# Altium schematic symbol library Maxim Amplifiers and Comparators.SchLib: 420 symbols (part 4 of 16)
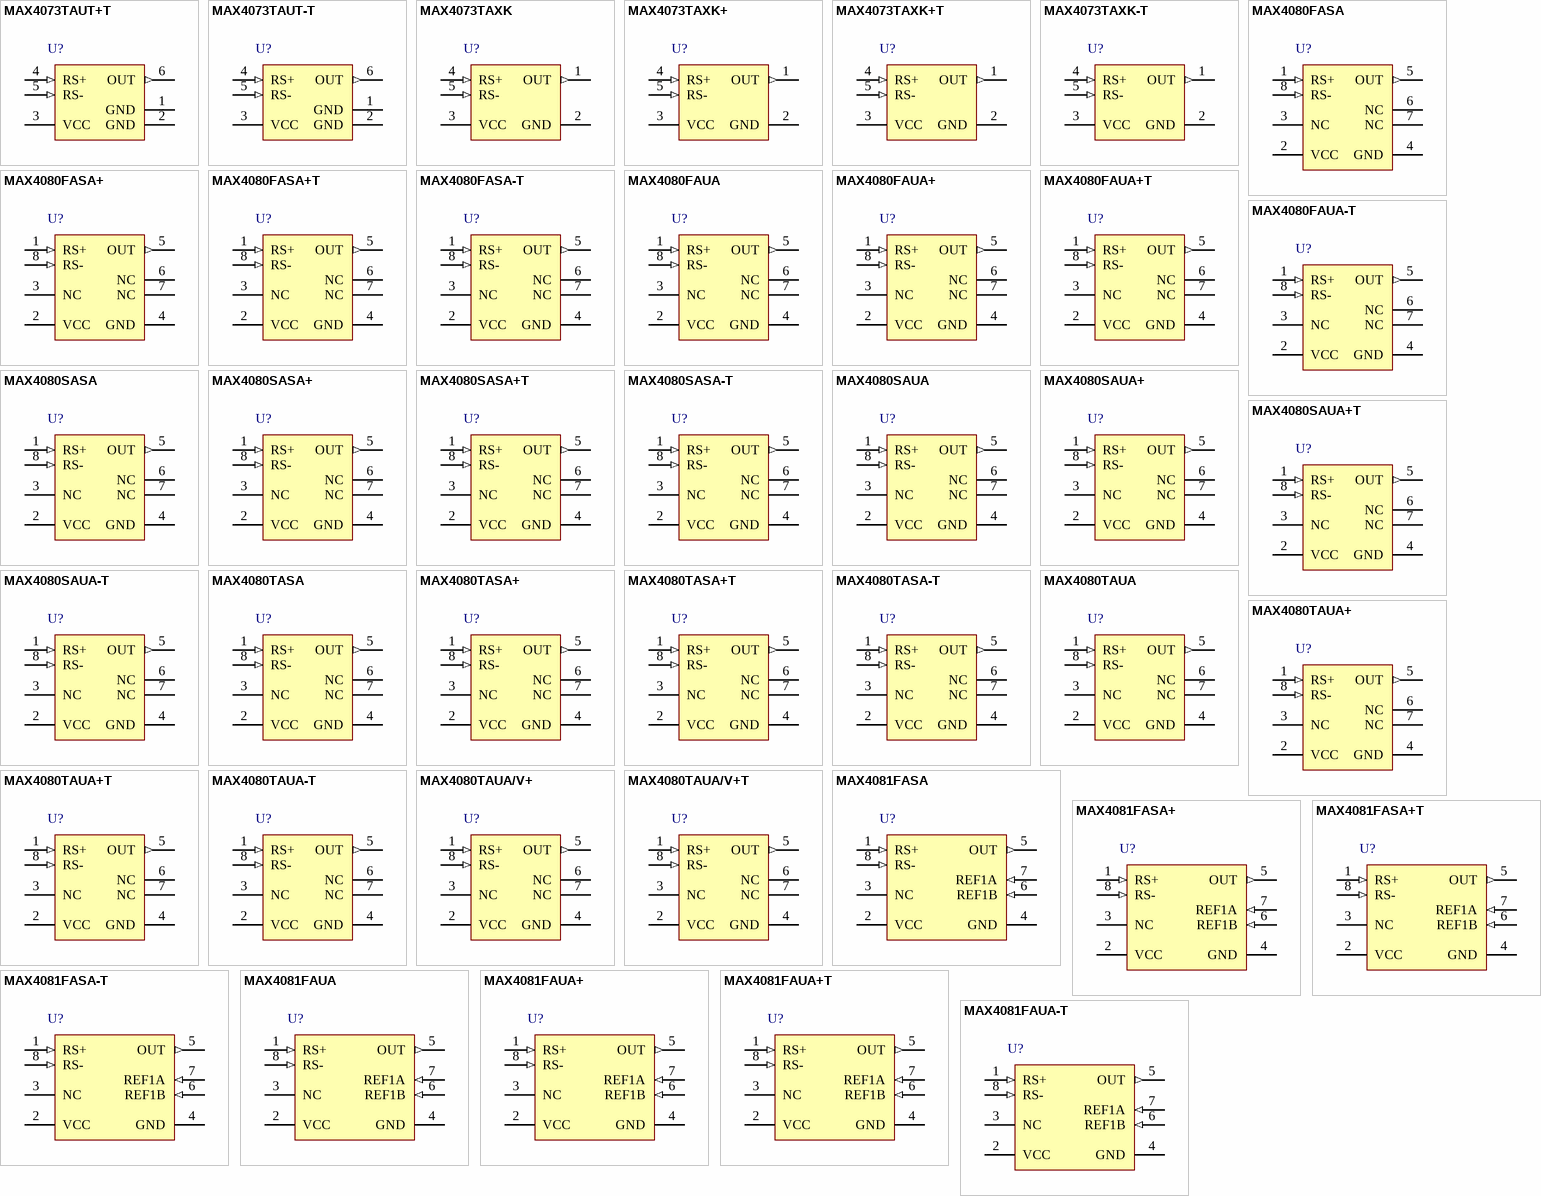
[diagram p13: symbols MAX4073TAUT+T to MAX4081FAUA-T]

## MAX4081FAUA+
designator U?
76 V, High-Side, Bi-directional Current-Sense Amplifier, 5 V / V Gain, -40 to 125 degC, 8-Pin SOP (U8+1), Pb-Free; PartNumber: MAX4081FAUA+; Bi-Dir. Curr. Sense: Yes; Gain: 5 V/V, 20 V/V ,60 V/V; Industry Qualified: Automotive - AECQ100, Automotive - General; DatasheetVersion: Rev. 4; PackageVersion: Rev. L, 08/2009; PackageReference: U8+1; PackageDescription: 8-Pin Micro-MAX, Thin Shrink Small-Outline (U8+1), Body 3 x 3 mm, Pitch 0.65 mm; Supplier 1: Digi-Key; Supplier Part Number 1: MAX4081FAUA+-ND; Supplier 2: Mouser; Supplier Part Number 2: 700-MAX4081FAUA; Mounting Technology: Surface Mount; Code_JEDEC: MO-187; ComponentLink1Description: Manufacturer URL; ComponentLink1URL: http://www.maximintegrated.com/; ComponentLink2Description: Datasheet; ComponentLink2URL: http://datasheets.maximintegrated.com/en/ds/MAX4080-MAX4081.pdf; ComponentLink3Description: Package Specification; ComponentLink3URL: http://pdfserv.maximintegrated.com/package_dwgs/21-0036.PDF
footprint MAXM-U8+1_N (SOP, 8-Leads, Body 3x3mm, Pitch 0.65mm, IPC Medium Density)
footprint MAXM-U8+1_L (SOP, 8-Leads, Body 3x3mm, Pitch 0.65mm, IPC High Density)
footprint MAXM-U8+1_M (SOP, 8-Leads, Body 3x3mm, Pitch 0.65mm, IPC Low Density)
pins: 1 RS+ (in) "Power connection to the external-sense resistor.", 2 VCC (power) "Supply Voltage Input. Decouple VCC to GND with at least a 0.1uF capacitor to bypass line transients.", 3 NC "No Connection. No internal connection. Leave open or connect to ground.", 4 GND (power) "Ground", 5 OUT (out) "Voltage Output. For the unidirectional MAX4080, VOUT is proportional to VSENSE. For the bidirectional MAX4081, the difference voltage (VOUT - VREF) is proportional to VSENSE and indicates the correct polarity.", 6 REF1B (in) "Reference Voltage Input: Connect REF1B to REF1A or to GND (see the External Reference section).", 7 REF1A (in) "Reference Voltage Input: Connect REF1A and REF1B to a fixed reference voltage (VREF). VOUT is equal to VREF when VSENSE is zero (see the External Reference section).", 8 RS- (in) "Load connection to the external sense resistor."

## MAX4081FAUA+T
designator U?
76 V, High-Side, Bi-directional Current-Sense Amplifier, 5 V / V Gain, -40 to 125 degC, 8-Pin SOP (U8+1), Pb-Free, Tape and Reel; PartNumber: MAX4081FAUA+T; Bi-Dir. Curr. Sense: Yes; Gain: 5 V/V, 20 V/V ,60 V/V; Industry Qualified: Automotive - AECQ100, Automotive - General; DatasheetVersion: Rev. 4; PackageVersion: Rev. L, 08/2009; PackageReference: U8+1; PackageDescription: 8-Pin Micro-MAX, Thin Shrink Small-Outline (U8+1), Body 3 x 3 mm, Pitch 0.65 mm; Supplier 1: Digi-Key; Supplier Part Number 1: MAX4081FAUA+T-ND; Supplier 2: Mouser; Supplier Part Number 2: 700-MAX4081FAUA+T; Mounting Technology: Surface Mount; Code_JEDEC: MO-187; ComponentLink1Description: Manufacturer URL; ComponentLink1URL: http://www.maximintegrated.com/; ComponentLink2Description: Datasheet; ComponentLink2URL: http://datasheets.maximintegrated.com/en/ds/MAX4080-MAX4081.pdf; ComponentLink3Description: Package Specification; ComponentLink3URL: http://pdfserv.maximintegrated.com/package_dwgs/21-0036.PDF
footprint MAXM-U8+1_N (SOP, 8-Leads, Body 3x3mm, Pitch 0.65mm, IPC Medium Density)
footprint MAXM-U8+1_L (SOP, 8-Leads, Body 3x3mm, Pitch 0.65mm, IPC High Density)
footprint MAXM-U8+1_M (SOP, 8-Leads, Body 3x3mm, Pitch 0.65mm, IPC Low Density)
pins: 1 RS+ (in) "Power connection to the external-sense resistor.", 2 VCC (power) "Supply Voltage Input. Decouple VCC to GND with at least a 0.1uF capacitor to bypass line transients.", 3 NC "No Connection. No internal connection. Leave open or connect to ground.", 4 GND (power) "Ground", 5 OUT (out) "Voltage Output. For the unidirectional MAX4080, VOUT is proportional to VSENSE. For the bidirectional MAX4081, the difference voltage (VOUT - VREF) is proportional to VSENSE and indicates the correct polarity.", 6 REF1B (in) "Reference Voltage Input: Connect REF1B to REF1A or to GND (see the External Reference section).", 7 REF1A (in) "Reference Voltage Input: Connect REF1A and REF1B to a fixed reference voltage (VREF). VOUT is equal to VREF when VSENSE is zero (see the External Reference section).", 8 RS- (in) "Load connection to the external sense resistor."

## MAX4081FAUA-T
designator U?
76 V, High-Side, Bi-directional Current-Sense Amplifier, 5 V / V Gain, -40 to 125 degC, 8-Pin SOP (U8-1), Tape and Reel; PartNumber: MAX4081FAUA-T; Bi-Dir. Curr. Sense: Yes; Gain: 5 V/V, 20 V/V ,60 V/V; Industry Qualified: Automotive - AECQ100, Automotive - General; DatasheetVersion: Rev. 4; PackageVersion: Rev. L, 08/2009; PackageReference: U8-1; PackageDescription: 8-Pin Micro-MAX, Thin Shrink Small-Outline (U8-1), Body 3 x 3 mm, Pitch 0.65mm; Supplier 1: Digi-Key; Supplier Part Number 1: MAX4081FAUA-T-ND; Supplier 2: Mouser; Supplier Part Number 2: 700-MAX4081FAUA-T-; Mounting Technology: Surface Mount; Code_JEDEC: MO-187; ComponentLink1Description: Manufacturer URL; ComponentLink1URL: http://www.maximintegrated.com/; ComponentLink2Description: Datasheet; ComponentLink2URL: http://datasheets.maximintegrated.com/en/ds/MAX4080-MAX4081.pdf; ComponentLink3Description: Package Specification; ComponentLink3URL: http://pdfserv.maximintegrated.com/package_dwgs/21-0036.PDF
footprint MAXM-U8-1_N (SOP, 8-Leads, Body 3x3mm, Pitch 0.65mm, IPC Medium Density)
footprint MAXM-U8-1_L (SOP, 8-Leads, Body 3x3mm, Pitch 0.65mm, IPC High Density)
footprint MAXM-U8-1_M (SOP, 8-Leads, Body 3x3mm, Pitch 0.65mm, IPC Low Density)
pins: 1 RS+ (in) "Power connection to the external-sense resistor.", 2 VCC (power) "Supply Voltage Input. Decouple VCC to GND with at least a 0.1uF capacitor to bypass line transients.", 3 NC "No Connection. No internal connection. Leave open or connect to ground.", 4 GND (power) "Ground", 5 OUT (out) "Voltage Output. For the unidirectional MAX4080, VOUT is proportional to VSENSE. For the bidirectional MAX4081, the difference voltage (VOUT - VREF) is proportional to VSENSE and indicates the correct polarity.", 6 REF1B (in) "Reference Voltage Input: Connect REF1B to REF1A or to GND (see the External Reference section).", 7 REF1A (in) "Reference Voltage Input: Connect REF1A and REF1B to a fixed reference voltage (VREF). VOUT is equal to VREF when VSENSE is zero (see the External Reference section).", 8 RS- (in) "Load connection to the external sense resistor."

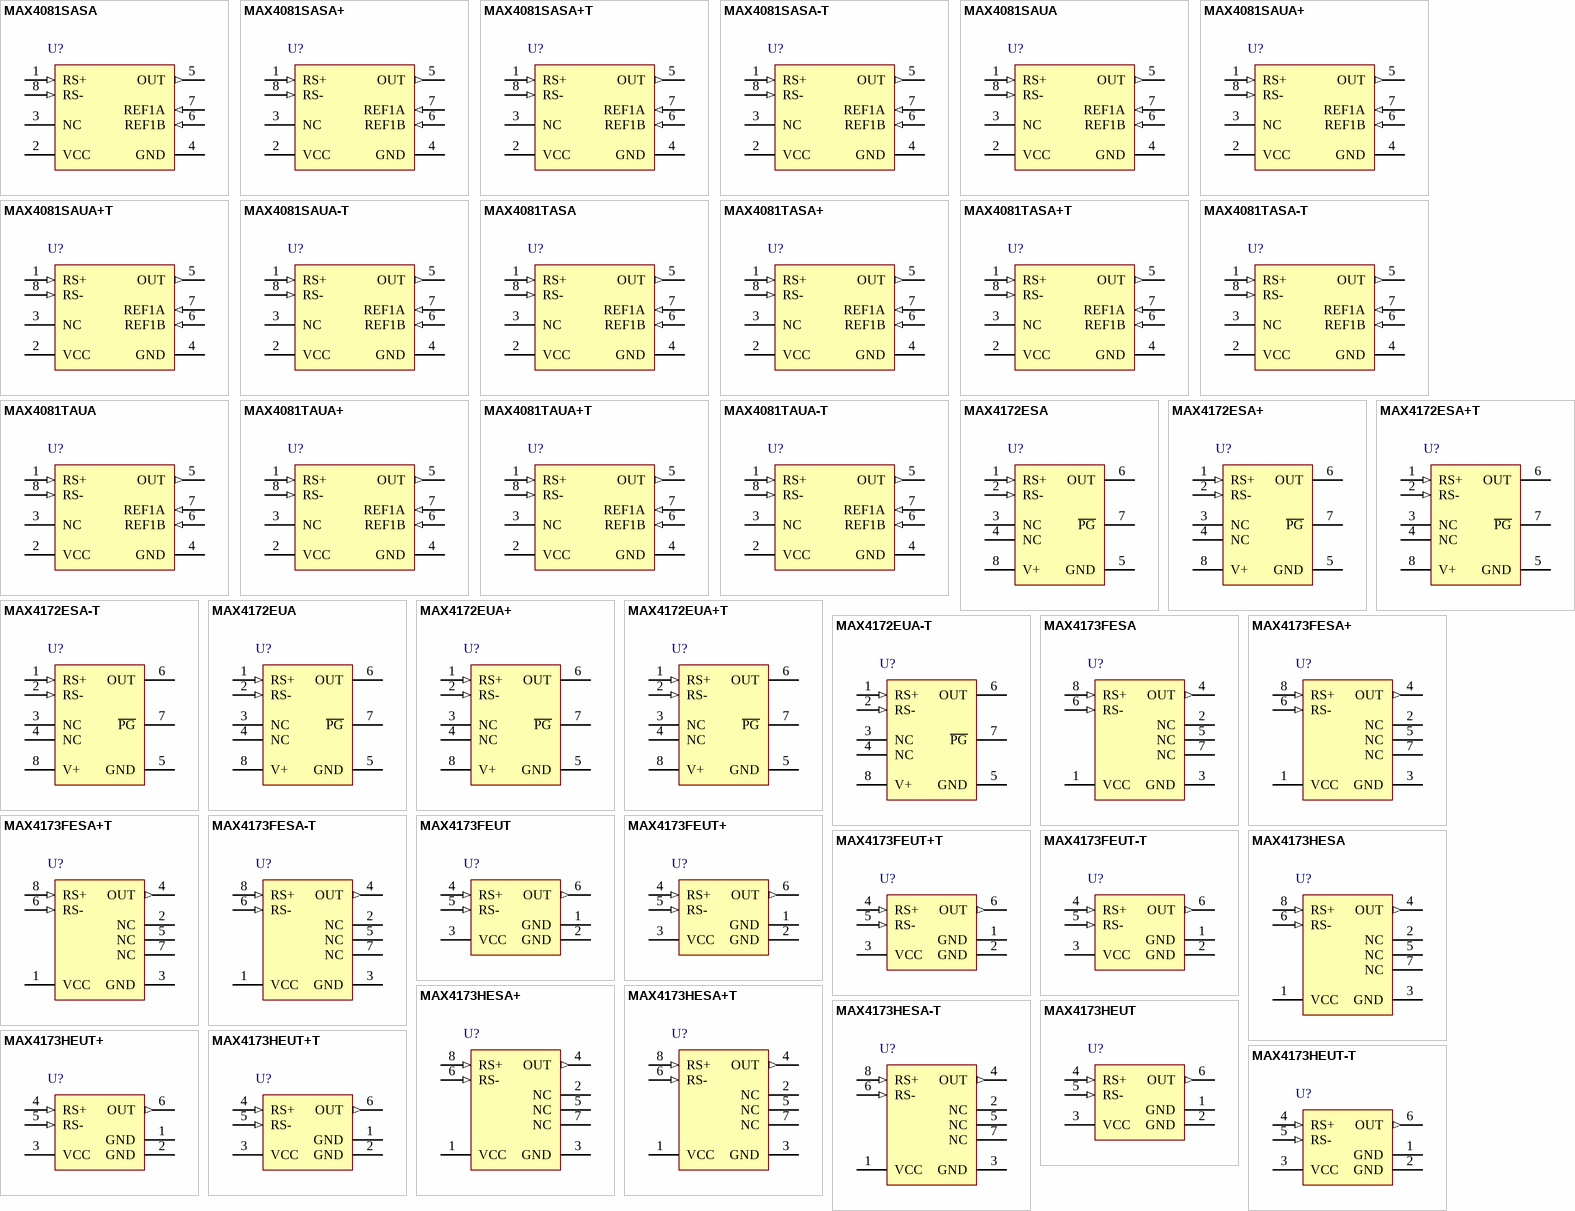
[diagram p2: symbols MAX4081SASA to MAX4173HEUT-T]

## MAX4081SASA
designator U?
76 V, High-Side, Bi-directional Current-Sense Amplifier, 60 V / V Gain, -40 to 125 degC, 8-Pin SOIC (S8-2); PartNumber: MAX4081SASA; Bi-Dir. Curr. Sense: Yes; Gain: 5 V/V, 20 V/V ,60 V/V; Industry Qualified: Automotive - AECQ100, Automotive - General; DatasheetVersion: Rev. 4; PackageVersion: Rev. D, 10/2012; PackageReference: S8-2; PackageDescription: 8-Pin Small-Outline IC, Narrow (0.15in) (S8-2), Body 4.90 x 3.90 mm, Pitch 1.27 mm; Supplier 1: Mouser; Supplier Part Number 1: N/A; Mounting Technology: Surface Mount; Code_JEDEC: MS012; ComponentLink1Description: Manufacturer URL; ComponentLink1URL: http://www.maximintegrated.com/; ComponentLink2Description: Datasheet; ComponentLink2URL: http://datasheets.maximintegrated.com/en/ds/MAX4080-MAX4081.pdf; ComponentLink3Description: Package Specification; ComponentLink3URL: http://pdfserv.maximintegrated.com/package_dwgs/21-0041.PDF
footprint MAXM-S8-2_N (SOIC, 8-Leads, Body 4.90x3.90mm, Pitch 1.27mm, IPC Medium Density)
footprint MAXM-S8-2_L (SOIC, 8-Leads, Body 4.90x3.90mm, Pitch 1.27mm, IPC High Density)
footprint MAXM-S8-2_M (SOIC, 8-Leads, Body 4.90x3.90mm, Pitch 1.27mm, IPC Low Density)
pins: 1 RS+ (in) "Power connection to the external-sense resistor.", 2 VCC (power) "Supply Voltage Input. Decouple VCC to GND with at least a 0.1uF capacitor to bypass line transients.", 3 NC "No Connection. No internal connection. Leave open or connect to ground.", 4 GND (power) "Ground", 5 OUT (out) "Voltage Output. For the unidirectional MAX4080, VOUT is proportional to VSENSE. For the bidirectional MAX4081, the difference voltage (VOUT - VREF) is proportional to VSENSE and indicates the correct polarity.", 6 REF1B (in) "Reference Voltage Input: Connect REF1B to REF1A or to GND (see the External Reference section).", 7 REF1A (in) "Reference Voltage Input: Connect REF1A and REF1B to a fixed reference voltage (VREF). VOUT is equal to VREF when VSENSE is zero (see the External Reference section).", 8 RS- (in) "Load connection to the external sense resistor."

## MAX4081SASA+
designator U?
76 V, High-Side, Bi-directional Current-Sense Amplifier, 60 V / V Gain, -40 to 125 degC, 8-Pin SOIC (S8+2), Pb-Free; PartNumber: MAX4081SASA+; Bi-Dir. Curr. Sense: Yes; Gain: 5 V/V, 20 V/V ,60 V/V; Industry Qualified: Automotive - AECQ100, Automotive - General; DatasheetVersion: Rev. 4; PackageVersion: Rev. D, 10/2012; PackageReference: S8+2; PackageDescription: 8-Pin Small-Outline IC, Narrow (0.15in) (S8+2), Body 4.90 x 3.90 mm, Pitch 1.27 mm; Supplier 1: Digi-Key; Supplier Part Number 1: MAX4081SASA+-ND; Supplier 2: Newark; Supplier Part Number 2: 53K6797; Supplier 3: Mouser; Supplier Part Number 3: 700-MAX4081SASA; Mounting Technology: Surface Mount; Code_JEDEC: MS012; ComponentLink1Description: Manufacturer URL; ComponentLink1URL: http://www.maximintegrated.com/; ComponentLink2Description: Datasheet; ComponentLink2URL: http://datasheets.maximintegrated.com/en/ds/MAX4080-MAX4081.pdf; ComponentLink3Description: Package Specification; ComponentLink3URL: http://pdfserv.maximintegrated.com/package_dwgs/21-0041.PDF
footprint MAXM-S8+2_N (SOIC, 8-Leads, Body 4.90x3.90mm, Pitch 1.27mm, IPC Medium Density)
footprint MAXM-S8+2_L (SOIC, 8-Leads, Body 4.90x3.90mm, Pitch 1.27mm, IPC High Density)
footprint MAXM-S8+2_M (SOIC, 8-Leads, Body 4.90x3.90mm, Pitch 1.27mm, IPC Low Density)
pins: 1 RS+ (in) "Power connection to the external-sense resistor.", 2 VCC (power) "Supply Voltage Input. Decouple VCC to GND with at least a 0.1uF capacitor to bypass line transients.", 3 NC "No Connection. No internal connection. Leave open or connect to ground.", 4 GND (power) "Ground", 5 OUT (out) "Voltage Output. For the unidirectional MAX4080, VOUT is proportional to VSENSE. For the bidirectional MAX4081, the difference voltage (VOUT - VREF) is proportional to VSENSE and indicates the correct polarity.", 6 REF1B (in) "Reference Voltage Input: Connect REF1B to REF1A or to GND (see the External Reference section).", 7 REF1A (in) "Reference Voltage Input: Connect REF1A and REF1B to a fixed reference voltage (VREF). VOUT is equal to VREF when VSENSE is zero (see the External Reference section).", 8 RS- (in) "Load connection to the external sense resistor."

## MAX4081SASA+T
designator U?
76 V, High-Side, Bi-directional Current-Sense Amplifier, 60 V / V Gain, -40 to 125 degC, 8-Pin SOIC (S8+2), Pb-Free, Tape and Reel; PartNumber: MAX4081SASA+T; Bi-Dir. Curr. Sense: Yes; Gain: 5 V/V, 20 V/V ,60 V/V; Industry Qualified: Automotive - AECQ100, Automotive - General; DatasheetVersion: Rev. 4; PackageVersion: Rev. D, 10/2012; PackageReference: S8+2; PackageDescription: 8-Pin Small-Outline IC, Narrow (0.15in) (S8+2), Body 4.90 x 3.90 mm, Pitch 1.27 mm; Supplier 1: Digi-Key; Supplier Part Number 1: MAX4081SASA+T-ND; Supplier 2: Mouser; Supplier Part Number 2: 700-MAX4081SASA+T; Mounting Technology: Surface Mount; Code_JEDEC: MS012; ComponentLink1Description: Manufacturer URL; ComponentLink1URL: http://www.maximintegrated.com/; ComponentLink2Description: Datasheet; ComponentLink2URL: http://datasheets.maximintegrated.com/en/ds/MAX4080-MAX4081.pdf; ComponentLink3Description: Package Specification; ComponentLink3URL: http://pdfserv.maximintegrated.com/package_dwgs/21-0041.PDF
footprint MAXM-S8+2_N (SOIC, 8-Leads, Body 4.90x3.90mm, Pitch 1.27mm, IPC Medium Density)
footprint MAXM-S8+2_L (SOIC, 8-Leads, Body 4.90x3.90mm, Pitch 1.27mm, IPC High Density)
footprint MAXM-S8+2_M (SOIC, 8-Leads, Body 4.90x3.90mm, Pitch 1.27mm, IPC Low Density)
pins: 1 RS+ (in) "Power connection to the external-sense resistor.", 2 VCC (power) "Supply Voltage Input. Decouple VCC to GND with at least a 0.1uF capacitor to bypass line transients.", 3 NC "No Connection. No internal connection. Leave open or connect to ground.", 4 GND (power) "Ground", 5 OUT (out) "Voltage Output. For the unidirectional MAX4080, VOUT is proportional to VSENSE. For the bidirectional MAX4081, the difference voltage (VOUT - VREF) is proportional to VSENSE and indicates the correct polarity.", 6 REF1B (in) "Reference Voltage Input: Connect REF1B to REF1A or to GND (see the External Reference section).", 7 REF1A (in) "Reference Voltage Input: Connect REF1A and REF1B to a fixed reference voltage (VREF). VOUT is equal to VREF when VSENSE is zero (see the External Reference section).", 8 RS- (in) "Load connection to the external sense resistor."

## MAX4081SASA-T
designator U?
76 V, High-Side, Bi-directional Current-Sense Amplifier, 60 V / V Gain, -40 to 125 degC, 8-Pin SOIC (S8-2), Tape and Reel; PartNumber: MAX4081SASA-T; Bi-Dir. Curr. Sense: Yes; Gain: 5 V/V, 20 V/V ,60 V/V; Industry Qualified: Automotive - AECQ100, Automotive - General; DatasheetVersion: Rev. 4; PackageVersion: Rev. D, 10/2012; PackageReference: S8-2; PackageDescription: 8-Pin Small-Outline IC, Narrow (0.15in) (S8-2), Body 4.90 x 3.90 mm, Pitch 1.27 mm; Supplier 1: Mouser; Supplier Part Number 1: N/A; Mounting Technology: Surface Mount; Code_JEDEC: MS012; ComponentLink1Description: Manufacturer URL; ComponentLink1URL: http://www.maximintegrated.com/; ComponentLink2Description: Datasheet; ComponentLink2URL: http://datasheets.maximintegrated.com/en/ds/MAX4080-MAX4081.pdf; ComponentLink3Description: Package Specification; ComponentLink3URL: http://pdfserv.maximintegrated.com/package_dwgs/21-0041.PDF
footprint MAXM-S8-2_N (SOIC, 8-Leads, Body 4.90x3.90mm, Pitch 1.27mm, IPC Medium Density)
footprint MAXM-S8-2_L (SOIC, 8-Leads, Body 4.90x3.90mm, Pitch 1.27mm, IPC High Density)
footprint MAXM-S8-2_M (SOIC, 8-Leads, Body 4.90x3.90mm, Pitch 1.27mm, IPC Low Density)
pins: 1 RS+ (in) "Power connection to the external-sense resistor.", 2 VCC (power) "Supply Voltage Input. Decouple VCC to GND with at least a 0.1uF capacitor to bypass line transients.", 3 NC "No Connection. No internal connection. Leave open or connect to ground.", 4 GND (power) "Ground", 5 OUT (out) "Voltage Output. For the unidirectional MAX4080, VOUT is proportional to VSENSE. For the bidirectional MAX4081, the difference voltage (VOUT - VREF) is proportional to VSENSE and indicates the correct polarity.", 6 REF1B (in) "Reference Voltage Input: Connect REF1B to REF1A or to GND (see the External Reference section).", 7 REF1A (in) "Reference Voltage Input: Connect REF1A and REF1B to a fixed reference voltage (VREF). VOUT is equal to VREF when VSENSE is zero (see the External Reference section).", 8 RS- (in) "Load connection to the external sense resistor."

## MAX4081SAUA
designator U?
76 V, High-Side, Bi-directional Current-Sense Amplifier, 60 V / V Gain, -40 to 125 degC, 8-Pin SOP (U8-1); PartNumber: MAX4081SAUA; Bi-Dir. Curr. Sense: Yes; Gain: 5 V/V, 20 V/V ,60 V/V; Industry Qualified: Automotive - AECQ100, Automotive - General; DatasheetVersion: Rev. 4; PackageVersion: Rev. L, 08/2009; PackageReference: U8-1; PackageDescription: 8-Pin Micro-MAX, Thin Shrink Small-Outline (U8-1), Body 3 x 3 mm, Pitch 0.65mm; Supplier 1: Mouser; Supplier Part Number 1: N/A; Mounting Technology: Surface Mount; Code_JEDEC: MO-187; ComponentLink1Description: Manufacturer URL; ComponentLink1URL: http://www.maximintegrated.com/; ComponentLink2Description: Datasheet; ComponentLink2URL: http://datasheets.maximintegrated.com/en/ds/MAX4080-MAX4081.pdf; ComponentLink3Description: Package Specification; ComponentLink3URL: http://pdfserv.maximintegrated.com/package_dwgs/21-0036.PDF
footprint MAXM-U8-1_N (SOP, 8-Leads, Body 3x3mm, Pitch 0.65mm, IPC Medium Density)
footprint MAXM-U8-1_L (SOP, 8-Leads, Body 3x3mm, Pitch 0.65mm, IPC High Density)
footprint MAXM-U8-1_M (SOP, 8-Leads, Body 3x3mm, Pitch 0.65mm, IPC Low Density)
pins: 1 RS+ (in) "Power connection to the external-sense resistor.", 2 VCC (power) "Supply Voltage Input. Decouple VCC to GND with at least a 0.1uF capacitor to bypass line transients.", 3 NC "No Connection. No internal connection. Leave open or connect to ground.", 4 GND (power) "Ground", 5 OUT (out) "Voltage Output. For the unidirectional MAX4080, VOUT is proportional to VSENSE. For the bidirectional MAX4081, the difference voltage (VOUT - VREF) is proportional to VSENSE and indicates the correct polarity.", 6 REF1B (in) "Reference Voltage Input: Connect REF1B to REF1A or to GND (see the External Reference section).", 7 REF1A (in) "Reference Voltage Input: Connect REF1A and REF1B to a fixed reference voltage (VREF). VOUT is equal to VREF when VSENSE is zero (see the External Reference section).", 8 RS- (in) "Load connection to the external sense resistor."

## MAX4081SAUA+
designator U?
76 V, High-Side, Bi-directional Current-Sense Amplifier, 60 V / V Gain, -40 to 125 degC, 8-Pin SOP (U8+1), Pb-Free; PartNumber: MAX4081SAUA+; Bi-Dir. Curr. Sense: Yes; Gain: 5 V/V, 20 V/V ,60 V/V; Industry Qualified: Automotive - AECQ100, Automotive - General; DatasheetVersion: Rev. 4; PackageVersion: Rev. L, 08/2009; PackageReference: U8+1; PackageDescription: 8-Pin Micro-MAX, Thin Shrink Small-Outline (U8+1), Body 3 x 3 mm, Pitch 0.65 mm; Supplier 1: Digi-Key; Supplier Part Number 1: MAX4081SAUA+-ND; Supplier 2: Mouser; Supplier Part Number 2: 700-MAX4081SAUA; Mounting Technology: Surface Mount; Code_JEDEC: MO-187; ComponentLink1Description: Manufacturer URL; ComponentLink1URL: http://www.maximintegrated.com/; ComponentLink2Description: Datasheet; ComponentLink2URL: http://datasheets.maximintegrated.com/en/ds/MAX4080-MAX4081.pdf; ComponentLink3Description: Package Specification; ComponentLink3URL: http://pdfserv.maximintegrated.com/package_dwgs/21-0036.PDF
footprint MAXM-U8+1_N (SOP, 8-Leads, Body 3x3mm, Pitch 0.65mm, IPC Medium Density)
footprint MAXM-U8+1_L (SOP, 8-Leads, Body 3x3mm, Pitch 0.65mm, IPC High Density)
footprint MAXM-U8+1_M (SOP, 8-Leads, Body 3x3mm, Pitch 0.65mm, IPC Low Density)
pins: 1 RS+ (in) "Power connection to the external-sense resistor.", 2 VCC (power) "Supply Voltage Input. Decouple VCC to GND with at least a 0.1uF capacitor to bypass line transients.", 3 NC "No Connection. No internal connection. Leave open or connect to ground.", 4 GND (power) "Ground", 5 OUT (out) "Voltage Output. For the unidirectional MAX4080, VOUT is proportional to VSENSE. For the bidirectional MAX4081, the difference voltage (VOUT - VREF) is proportional to VSENSE and indicates the correct polarity.", 6 REF1B (in) "Reference Voltage Input: Connect REF1B to REF1A or to GND (see the External Reference section).", 7 REF1A (in) "Reference Voltage Input: Connect REF1A and REF1B to a fixed reference voltage (VREF). VOUT is equal to VREF when VSENSE is zero (see the External Reference section).", 8 RS- (in) "Load connection to the external sense resistor."

## MAX4081SAUA+T
designator U?
76 V, High-Side, Bi-directional Current-Sense Amplifier, 60 V / V Gain, -40 to 125 degC, 8-Pin SOP (U8+1), Pb-Free, Tape and Reel; PartNumber: MAX4081SAUA+T; Bi-Dir. Curr. Sense: Yes; Gain: 5 V/V, 20 V/V ,60 V/V; Industry Qualified: Automotive - AECQ100, Automotive - General; DatasheetVersion: Rev. 4; PackageVersion: Rev. L, 08/2009; PackageReference: U8+1; PackageDescription: 8-Pin Micro-MAX, Thin Shrink Small-Outline (U8+1), Body 3 x 3 mm, Pitch 0.65 mm; Supplier 1: Digi-Key; Supplier Part Number 1: MAX4081SAUA+T-ND; Supplier 2: Mouser; Supplier Part Number 2: 700-MAX4081SAUA+T; Mounting Technology: Surface Mount; Code_JEDEC: MO-187; ComponentLink1Description: Manufacturer URL; ComponentLink1URL: http://www.maximintegrated.com/; ComponentLink2Description: Datasheet; ComponentLink2URL: http://datasheets.maximintegrated.com/en/ds/MAX4080-MAX4081.pdf; ComponentLink3Description: Package Specification; ComponentLink3URL: http://pdfserv.maximintegrated.com/package_dwgs/21-0036.PDF
footprint MAXM-U8+1_N (SOP, 8-Leads, Body 3x3mm, Pitch 0.65mm, IPC Medium Density)
footprint MAXM-U8+1_L (SOP, 8-Leads, Body 3x3mm, Pitch 0.65mm, IPC High Density)
footprint MAXM-U8+1_M (SOP, 8-Leads, Body 3x3mm, Pitch 0.65mm, IPC Low Density)
pins: 1 RS+ (in) "Power connection to the external-sense resistor.", 2 VCC (power) "Supply Voltage Input. Decouple VCC to GND with at least a 0.1uF capacitor to bypass line transients.", 3 NC "No Connection. No internal connection. Leave open or connect to ground.", 4 GND (power) "Ground", 5 OUT (out) "Voltage Output. For the unidirectional MAX4080, VOUT is proportional to VSENSE. For the bidirectional MAX4081, the difference voltage (VOUT - VREF) is proportional to VSENSE and indicates the correct polarity.", 6 REF1B (in) "Reference Voltage Input: Connect REF1B to REF1A or to GND (see the External Reference section).", 7 REF1A (in) "Reference Voltage Input: Connect REF1A and REF1B to a fixed reference voltage (VREF). VOUT is equal to VREF when VSENSE is zero (see the External Reference section).", 8 RS- (in) "Load connection to the external sense resistor."

## MAX4081SAUA-T
designator U?
76 V, High-Side, Bi-directional Current-Sense Amplifier, 60 V / V Gain, -40 to 125 degC, 8-Pin SOP (U8-1), Tape and Reel; PartNumber: MAX4081SAUA-T; Bi-Dir. Curr. Sense: Yes; Gain: 5 V/V, 20 V/V ,60 V/V; Industry Qualified: Automotive - AECQ100, Automotive - General; DatasheetVersion: Rev. 4; PackageVersion: Rev. L, 08/2009; PackageReference: U8-1; PackageDescription: 8-Pin Micro-MAX, Thin Shrink Small-Outline (U8-1), Body 3 x 3 mm, Pitch 0.65mm; Supplier 1: Mouser; Supplier Part Number 1: N/A; Mounting Technology: Surface Mount; Code_JEDEC: MO-187; ComponentLink1Description: Manufacturer URL; ComponentLink1URL: http://www.maximintegrated.com/; ComponentLink2Description: Datasheet; ComponentLink2URL: http://datasheets.maximintegrated.com/en/ds/MAX4080-MAX4081.pdf; ComponentLink3Description: Package Specification; ComponentLink3URL: http://pdfserv.maximintegrated.com/package_dwgs/21-0036.PDF
footprint MAXM-U8-1_N (SOP, 8-Leads, Body 3x3mm, Pitch 0.65mm, IPC Medium Density)
footprint MAXM-U8-1_L (SOP, 8-Leads, Body 3x3mm, Pitch 0.65mm, IPC High Density)
footprint MAXM-U8-1_M (SOP, 8-Leads, Body 3x3mm, Pitch 0.65mm, IPC Low Density)
pins: 1 RS+ (in) "Power connection to the external-sense resistor.", 2 VCC (power) "Supply Voltage Input. Decouple VCC to GND with at least a 0.1uF capacitor to bypass line transients.", 3 NC "No Connection. No internal connection. Leave open or connect to ground.", 4 GND (power) "Ground", 5 OUT (out) "Voltage Output. For the unidirectional MAX4080, VOUT is proportional to VSENSE. For the bidirectional MAX4081, the difference voltage (VOUT - VREF) is proportional to VSENSE and indicates the correct polarity.", 6 REF1B (in) "Reference Voltage Input: Connect REF1B to REF1A or to GND (see the External Reference section).", 7 REF1A (in) "Reference Voltage Input: Connect REF1A and REF1B to a fixed reference voltage (VREF). VOUT is equal to VREF when VSENSE is zero (see the External Reference section).", 8 RS- (in) "Load connection to the external sense resistor."

## MAX4081TASA
designator U?
76 V, High-Side, Bi-directional Current-Sense Amplifier, 20 V / V Gain, -40 to 125 degC, 8-Pin SOIC (S8-2); PartNumber: MAX4081TASA; Bi-Dir. Curr. Sense: Yes; Gain: 5 V/V, 20 V/V ,60 V/V; Industry Qualified: Automotive - AECQ100, Automotive - General; DatasheetVersion: Rev. 4; PackageVersion: Rev. D, 10/2012; PackageReference: S8-2; PackageDescription: 8-Pin Small-Outline IC, Narrow (0.15in) (S8-2), Body 4.90 x 3.90 mm, Pitch 1.27 mm; Supplier 1: Mouser; Supplier Part Number 1: N/A; Mounting Technology: Surface Mount; Code_JEDEC: MS012; ComponentLink1Description: Manufacturer URL; ComponentLink1URL: http://www.maximintegrated.com/; ComponentLink2Description: Datasheet; ComponentLink2URL: http://datasheets.maximintegrated.com/en/ds/MAX4080-MAX4081.pdf; ComponentLink3Description: Package Specification; ComponentLink3URL: http://pdfserv.maximintegrated.com/package_dwgs/21-0041.PDF
footprint MAXM-S8-2_N (SOIC, 8-Leads, Body 4.90x3.90mm, Pitch 1.27mm, IPC Medium Density)
footprint MAXM-S8-2_L (SOIC, 8-Leads, Body 4.90x3.90mm, Pitch 1.27mm, IPC High Density)
footprint MAXM-S8-2_M (SOIC, 8-Leads, Body 4.90x3.90mm, Pitch 1.27mm, IPC Low Density)
pins: 1 RS+ (in) "Power connection to the external-sense resistor.", 2 VCC (power) "Supply Voltage Input. Decouple VCC to GND with at least a 0.1uF capacitor to bypass line transients.", 3 NC "No Connection. No internal connection. Leave open or connect to ground.", 4 GND (power) "Ground", 5 OUT (out) "Voltage Output. For the unidirectional MAX4080, VOUT is proportional to VSENSE. For the bidirectional MAX4081, the difference voltage (VOUT - VREF) is proportional to VSENSE and indicates the correct polarity.", 6 REF1B (in) "Reference Voltage Input: Connect REF1B to REF1A or to GND (see the External Reference section).", 7 REF1A (in) "Reference Voltage Input: Connect REF1A and REF1B to a fixed reference voltage (VREF). VOUT is equal to VREF when VSENSE is zero (see the External Reference section).", 8 RS- (in) "Load connection to the external sense resistor."

## MAX4081TASA+
designator U?
76 V, High-Side, Bi-directional Current-Sense Amplifier, 20 V / V Gain, -40 to 125 degC, 8-Pin SOIC (S8+2), Pb-Free; PartNumber: MAX4081TASA+; Bi-Dir. Curr. Sense: Yes; Gain: 5 V/V, 20 V/V ,60 V/V; Industry Qualified: Automotive - AECQ100, Automotive - General; DatasheetVersion: Rev. 4; PackageVersion: Rev. D, 10/2012; PackageReference: S8+2; PackageDescription: 8-Pin Small-Outline IC, Narrow (0.15in) (S8+2), Body 4.90 x 3.90 mm, Pitch 1.27 mm; Supplier 1: Digi-Key; Supplier Part Number 1: MAX4081TASA+-ND; Supplier 2: Mouser; Supplier Part Number 2: 700-MAX4081TASA; Mounting Technology: Surface Mount; Code_JEDEC: MS012; ComponentLink1Description: Manufacturer URL; ComponentLink1URL: http://www.maximintegrated.com/; ComponentLink2Description: Datasheet; ComponentLink2URL: http://datasheets.maximintegrated.com/en/ds/MAX4080-MAX4081.pdf; ComponentLink3Description: Package Specification; ComponentLink3URL: http://pdfserv.maximintegrated.com/package_dwgs/21-0041.PDF
footprint MAXM-S8+2_N (SOIC, 8-Leads, Body 4.90x3.90mm, Pitch 1.27mm, IPC Medium Density)
footprint MAXM-S8+2_L (SOIC, 8-Leads, Body 4.90x3.90mm, Pitch 1.27mm, IPC High Density)
footprint MAXM-S8+2_M (SOIC, 8-Leads, Body 4.90x3.90mm, Pitch 1.27mm, IPC Low Density)
pins: 1 RS+ (in) "Power connection to the external-sense resistor.", 2 VCC (power) "Supply Voltage Input. Decouple VCC to GND with at least a 0.1uF capacitor to bypass line transients.", 3 NC "No Connection. No internal connection. Leave open or connect to ground.", 4 GND (power) "Ground", 5 OUT (out) "Voltage Output. For the unidirectional MAX4080, VOUT is proportional to VSENSE. For the bidirectional MAX4081, the difference voltage (VOUT - VREF) is proportional to VSENSE and indicates the correct polarity.", 6 REF1B (in) "Reference Voltage Input: Connect REF1B to REF1A or to GND (see the External Reference section).", 7 REF1A (in) "Reference Voltage Input: Connect REF1A and REF1B to a fixed reference voltage (VREF). VOUT is equal to VREF when VSENSE is zero (see the External Reference section).", 8 RS- (in) "Load connection to the external sense resistor."

## MAX4081TASA+T
designator U?
76 V, High-Side, Bi-directional Current-Sense Amplifier, 20 V / V Gain, -40 to 125 degC, 8-Pin SOIC (S8+2), Pb-Free, Tape and Reel; PartNumber: MAX4081TASA+T; Bi-Dir. Curr. Sense: Yes; Gain: 5 V/V, 20 V/V ,60 V/V; Industry Qualified: Automotive - AECQ100, Automotive - General; DatasheetVersion: Rev. 4; PackageVersion: Rev. D, 10/2012; PackageReference: S8+2; PackageDescription: 8-Pin Small-Outline IC, Narrow (0.15in) (S8+2), Body 4.90 x 3.90 mm, Pitch 1.27 mm; Supplier 1: Digi-Key; Supplier Part Number 1: MAX4081TASA+T-ND; Supplier 2: Mouser; Supplier Part Number 2: 700-MAX4081TASA+T; Mounting Technology: Surface Mount; Code_JEDEC: MS012; ComponentLink1Description: Manufacturer URL; ComponentLink1URL: http://www.maximintegrated.com/; ComponentLink2Description: Datasheet; ComponentLink2URL: http://datasheets.maximintegrated.com/en/ds/MAX4080-MAX4081.pdf; ComponentLink3Description: Package Specification; ComponentLink3URL: http://pdfserv.maximintegrated.com/package_dwgs/21-0041.PDF
footprint MAXM-S8+2_N (SOIC, 8-Leads, Body 4.90x3.90mm, Pitch 1.27mm, IPC Medium Density)
footprint MAXM-S8+2_L (SOIC, 8-Leads, Body 4.90x3.90mm, Pitch 1.27mm, IPC High Density)
footprint MAXM-S8+2_M (SOIC, 8-Leads, Body 4.90x3.90mm, Pitch 1.27mm, IPC Low Density)
pins: 1 RS+ (in) "Power connection to the external-sense resistor.", 2 VCC (power) "Supply Voltage Input. Decouple VCC to GND with at least a 0.1uF capacitor to bypass line transients.", 3 NC "No Connection. No internal connection. Leave open or connect to ground.", 4 GND (power) "Ground", 5 OUT (out) "Voltage Output. For the unidirectional MAX4080, VOUT is proportional to VSENSE. For the bidirectional MAX4081, the difference voltage (VOUT - VREF) is proportional to VSENSE and indicates the correct polarity.", 6 REF1B (in) "Reference Voltage Input: Connect REF1B to REF1A or to GND (see the External Reference section).", 7 REF1A (in) "Reference Voltage Input: Connect REF1A and REF1B to a fixed reference voltage (VREF). VOUT is equal to VREF when VSENSE is zero (see the External Reference section).", 8 RS- (in) "Load connection to the external sense resistor."

## MAX4081TASA-T
designator U?
76 V, High-Side, Bi-directional Current-Sense Amplifier, 20 V / V Gain, -40 to 125 degC, 8-Pin SOIC (S8-2), Tape and Reel; PartNumber: MAX4081TASA-T; Bi-Dir. Curr. Sense: Yes; Gain: 5 V/V, 20 V/V ,60 V/V; Industry Qualified: Automotive - AECQ100, Automotive - General; DatasheetVersion: Rev. 4; PackageVersion: Rev. D, 10/2012; PackageReference: S8-2; PackageDescription: 8-Pin Small-Outline IC, Narrow (0.15in) (S8-2), Body 4.90 x 3.90 mm, Pitch 1.27 mm; Supplier 1: Mouser; Supplier Part Number 1: N/A; Mounting Technology: Surface Mount; Code_JEDEC: MS012; ComponentLink1Description: Manufacturer URL; ComponentLink1URL: http://www.maximintegrated.com/; ComponentLink2Description: Datasheet; ComponentLink2URL: http://datasheets.maximintegrated.com/en/ds/MAX4080-MAX4081.pdf; ComponentLink3Description: Package Specification; ComponentLink3URL: http://pdfserv.maximintegrated.com/package_dwgs/21-0041.PDF
footprint MAXM-S8-2_N (SOIC, 8-Leads, Body 4.90x3.90mm, Pitch 1.27mm, IPC Medium Density)
footprint MAXM-S8-2_L (SOIC, 8-Leads, Body 4.90x3.90mm, Pitch 1.27mm, IPC High Density)
footprint MAXM-S8-2_M (SOIC, 8-Leads, Body 4.90x3.90mm, Pitch 1.27mm, IPC Low Density)
pins: 1 RS+ (in) "Power connection to the external-sense resistor.", 2 VCC (power) "Supply Voltage Input. Decouple VCC to GND with at least a 0.1uF capacitor to bypass line transients.", 3 NC "No Connection. No internal connection. Leave open or connect to ground.", 4 GND (power) "Ground", 5 OUT (out) "Voltage Output. For the unidirectional MAX4080, VOUT is proportional to VSENSE. For the bidirectional MAX4081, the difference voltage (VOUT - VREF) is proportional to VSENSE and indicates the correct polarity.", 6 REF1B (in) "Reference Voltage Input: Connect REF1B to REF1A or to GND (see the External Reference section).", 7 REF1A (in) "Reference Voltage Input: Connect REF1A and REF1B to a fixed reference voltage (VREF). VOUT is equal to VREF when VSENSE is zero (see the External Reference section).", 8 RS- (in) "Load connection to the external sense resistor."

## MAX4081TAUA
designator U?
76 V, High-Side, Bi-directional Current-Sense Amplifier, 20 V / V Gain, -40 to 125 degC, 8-Pin SOP (U8-1); PartNumber: MAX4081TAUA; Bi-Dir. Curr. Sense: Yes; Gain: 5 V/V, 20 V/V ,60 V/V; Industry Qualified: Automotive - AECQ100, Automotive - General; DatasheetVersion: Rev. 4; PackageVersion: Rev. L, 08/2009; PackageReference: U8-1; PackageDescription: 8-Pin Micro-MAX, Thin Shrink Small-Outline (U8-1), Body 3 x 3 mm, Pitch 0.65mm; Supplier 1: Digi-Key; Supplier Part Number 1: MAX4081TAUA-ND; Supplier 2: Mouser; Supplier Part Number 2: 700-MAX4081TAUA-NR; Mounting Technology: Surface Mount; Code_JEDEC: MO-187; ComponentLink1Description: Manufacturer URL; ComponentLink1URL: http://www.maximintegrated.com/; ComponentLink2Description: Datasheet; ComponentLink2URL: http://datasheets.maximintegrated.com/en/ds/MAX4080-MAX4081.pdf; ComponentLink3Description: Package Specification; ComponentLink3URL: http://pdfserv.maximintegrated.com/package_dwgs/21-0036.PDF
footprint MAXM-U8-1_N (SOP, 8-Leads, Body 3x3mm, Pitch 0.65mm, IPC Medium Density)
footprint MAXM-U8-1_L (SOP, 8-Leads, Body 3x3mm, Pitch 0.65mm, IPC High Density)
footprint MAXM-U8-1_M (SOP, 8-Leads, Body 3x3mm, Pitch 0.65mm, IPC Low Density)
pins: 1 RS+ (in) "Power connection to the external-sense resistor.", 2 VCC (power) "Supply Voltage Input. Decouple VCC to GND with at least a 0.1uF capacitor to bypass line transients.", 3 NC "No Connection. No internal connection. Leave open or connect to ground.", 4 GND (power) "Ground", 5 OUT (out) "Voltage Output. For the unidirectional MAX4080, VOUT is proportional to VSENSE. For the bidirectional MAX4081, the difference voltage (VOUT - VREF) is proportional to VSENSE and indicates the correct polarity.", 6 REF1B (in) "Reference Voltage Input: Connect REF1B to REF1A or to GND (see the External Reference section).", 7 REF1A (in) "Reference Voltage Input: Connect REF1A and REF1B to a fixed reference voltage (VREF). VOUT is equal to VREF when VSENSE is zero (see the External Reference section).", 8 RS- (in) "Load connection to the external sense resistor."

## MAX4081TAUA+
designator U?
76 V, High-Side, Bi-directional Current-Sense Amplifier, 20 V / V Gain, -40 to 125 degC, 8-Pin SOP (U8+1), Pb-Free; PartNumber: MAX4081TAUA+; Bi-Dir. Curr. Sense: Yes; Gain: 5 V/V, 20 V/V ,60 V/V; Industry Qualified: Automotive - AECQ100, Automotive - General; DatasheetVersion: Rev. 4; PackageVersion: Rev. L, 08/2009; PackageReference: U8+1; PackageDescription: 8-Pin Micro-MAX, Thin Shrink Small-Outline (U8+1), Body 3 x 3 mm, Pitch 0.65 mm; Supplier 1: Digi-Key; Supplier Part Number 1: MAX4081TAUA+-ND; Supplier 2: Mouser; Supplier Part Number 2: 700-MAX4081TAUA; Mounting Technology: Surface Mount; Code_JEDEC: MO-187; ComponentLink1Description: Manufacturer URL; ComponentLink1URL: http://www.maximintegrated.com/; ComponentLink2Description: Datasheet; ComponentLink2URL: http://datasheets.maximintegrated.com/en/ds/MAX4080-MAX4081.pdf; ComponentLink3Description: Package Specification; ComponentLink3URL: http://pdfserv.maximintegrated.com/package_dwgs/21-0036.PDF
footprint MAXM-U8+1_N (SOP, 8-Leads, Body 3x3mm, Pitch 0.65mm, IPC Medium Density)
footprint MAXM-U8+1_L (SOP, 8-Leads, Body 3x3mm, Pitch 0.65mm, IPC High Density)
footprint MAXM-U8+1_M (SOP, 8-Leads, Body 3x3mm, Pitch 0.65mm, IPC Low Density)
pins: 1 RS+ (in) "Power connection to the external-sense resistor.", 2 VCC (power) "Supply Voltage Input. Decouple VCC to GND with at least a 0.1uF capacitor to bypass line transients.", 3 NC "No Connection. No internal connection. Leave open or connect to ground.", 4 GND (power) "Ground", 5 OUT (out) "Voltage Output. For the unidirectional MAX4080, VOUT is proportional to VSENSE. For the bidirectional MAX4081, the difference voltage (VOUT - VREF) is proportional to VSENSE and indicates the correct polarity.", 6 REF1B (in) "Reference Voltage Input: Connect REF1B to REF1A or to GND (see the External Reference section).", 7 REF1A (in) "Reference Voltage Input: Connect REF1A and REF1B to a fixed reference voltage (VREF). VOUT is equal to VREF when VSENSE is zero (see the External Reference section).", 8 RS- (in) "Load connection to the external sense resistor."

## MAX4081TAUA+T
designator U?
76 V, High-Side, Bi-directional Current-Sense Amplifier, 20 V / V Gain, -40 to 125 degC, 8-Pin SOP (U8+1), Pb-Free, Tape and Reel; PartNumber: MAX4081TAUA+T; Bi-Dir. Curr. Sense: Yes; Gain: 5 V/V, 20 V/V ,60 V/V; Industry Qualified: Automotive - AECQ100, Automotive - General; DatasheetVersion: Rev. 4; PackageVersion: Rev. L, 08/2009; PackageReference: U8+1; PackageDescription: 8-Pin Micro-MAX, Thin Shrink Small-Outline (U8+1), Body 3 x 3 mm, Pitch 0.65 mm; Supplier 1: Digi-Key; Supplier Part Number 1: MAX4081TAUA+T-ND; Supplier 2: Mouser; Supplier Part Number 2: 700-MAX4081TAUAT; Mounting Technology: Surface Mount; Code_JEDEC: MO-187; ComponentLink1Description: Manufacturer URL; ComponentLink1URL: http://www.maximintegrated.com/; ComponentLink2Description: Datasheet; ComponentLink2URL: http://datasheets.maximintegrated.com/en/ds/MAX4080-MAX4081.pdf; ComponentLink3Description: Package Specification; ComponentLink3URL: http://pdfserv.maximintegrated.com/package_dwgs/21-0036.PDF
footprint MAXM-U8+1_N (SOP, 8-Leads, Body 3x3mm, Pitch 0.65mm, IPC Medium Density)
footprint MAXM-U8+1_L (SOP, 8-Leads, Body 3x3mm, Pitch 0.65mm, IPC High Density)
footprint MAXM-U8+1_M (SOP, 8-Leads, Body 3x3mm, Pitch 0.65mm, IPC Low Density)
pins: 1 RS+ (in) "Power connection to the external-sense resistor.", 2 VCC (power) "Supply Voltage Input. Decouple VCC to GND with at least a 0.1uF capacitor to bypass line transients.", 3 NC "No Connection. No internal connection. Leave open or connect to ground.", 4 GND (power) "Ground", 5 OUT (out) "Voltage Output. For the unidirectional MAX4080, VOUT is proportional to VSENSE. For the bidirectional MAX4081, the difference voltage (VOUT - VREF) is proportional to VSENSE and indicates the correct polarity.", 6 REF1B (in) "Reference Voltage Input: Connect REF1B to REF1A or to GND (see the External Reference section).", 7 REF1A (in) "Reference Voltage Input: Connect REF1A and REF1B to a fixed reference voltage (VREF). VOUT is equal to VREF when VSENSE is zero (see the External Reference section).", 8 RS- (in) "Load connection to the external sense resistor."

## MAX4081TAUA-T
designator U?
76 V, High-Side, Bi-directional Current-Sense Amplifier, 20 V / V Gain, -40 to 125 degC, 8-Pin SOP (U8-1), Tape and Reel; PartNumber: MAX4081TAUA-T; Bi-Dir. Curr. Sense: Yes; Gain: 5 V/V, 20 V/V ,60 V/V; Industry Qualified: Automotive - AECQ100, Automotive - General; DatasheetVersion: Rev. 4; PackageVersion: Rev. L, 08/2009; PackageReference: U8-1; PackageDescription: 8-Pin Micro-MAX, Thin Shrink Small-Outline (U8-1), Body 3 x 3 mm, Pitch 0.65mm; Supplier 1: Digi-Key; Supplier Part Number 1: MAX4081TAUA-T-ND; Supplier 2: Mouser; Supplier Part Number 2: 700-MAX4081TAUA-T-NR; Mounting Technology: Surface Mount; Code_JEDEC: MO-187; ComponentLink1Description: Manufacturer URL; ComponentLink1URL: http://www.maximintegrated.com/; ComponentLink2Description: Datasheet; ComponentLink2URL: http://datasheets.maximintegrated.com/en/ds/MAX4080-MAX4081.pdf; ComponentLink3Description: Package Specification; ComponentLink3URL: http://pdfserv.maximintegrated.com/package_dwgs/21-0036.PDF
footprint MAXM-U8-1_N (SOP, 8-Leads, Body 3x3mm, Pitch 0.65mm, IPC Medium Density)
footprint MAXM-U8-1_L (SOP, 8-Leads, Body 3x3mm, Pitch 0.65mm, IPC High Density)
footprint MAXM-U8-1_M (SOP, 8-Leads, Body 3x3mm, Pitch 0.65mm, IPC Low Density)
pins: 1 RS+ (in) "Power connection to the external-sense resistor.", 2 VCC (power) "Supply Voltage Input. Decouple VCC to GND with at least a 0.1uF capacitor to bypass line transients.", 3 NC "No Connection. No internal connection. Leave open or connect to ground.", 4 GND (power) "Ground", 5 OUT (out) "Voltage Output. For the unidirectional MAX4080, VOUT is proportional to VSENSE. For the bidirectional MAX4081, the difference voltage (VOUT - VREF) is proportional to VSENSE and indicates the correct polarity.", 6 REF1B (in) "Reference Voltage Input: Connect REF1B to REF1A or to GND (see the External Reference section).", 7 REF1A (in) "Reference Voltage Input: Connect REF1A and REF1B to a fixed reference voltage (VREF). VOUT is equal to VREF when VSENSE is zero (see the External Reference section).", 8 RS- (in) "Load connection to the external sense resistor."

## MAX4172ESA
designator U?
Precision, High-Side, Current-Sense Amplifier (Iout) 10 uA / mV Gain, -40 to 85 degC, 8-Pin SOIC (S8-4); PartNumber: MAX4172ESA; Bi-Dir. Curr. Sense: No; DatasheetVersion: Rev. 2; PackageVersion: Rev. D, 10/2012; PackageReference: S8-4; PackageDescription: 8-Pin Small-Outline IC, Narrow, Body 3.9 x 4.9 mm, Pitch 1.27 mm; Supplier 1: Digi-Key; Supplier Part Number 1: MAX4172ESA-ND; Supplier 2: Mouser; Supplier Part Number 2: 700-MAX4172ESA-NR; Gain: 10 uA/mV; Mounting Technology: Surface Mount; Code_JEDEC: MS-012; ComponentLink1Description: Manufacturer URL; ComponentLink1URL: http://www.maximintegrated.com/; ComponentLink2Description: Datasheet; ComponentLink2URL: http://datasheets.maximintegrated.com/en/ds/MAX4172.pdf; ComponentLink3Description: Package Specification; ComponentLink3URL: http://pdfserv.maximintegrated.com/package_dwgs/21-0041.PDF
footprint MAXM-S8-4_N (SOIC, 8-Leads, Body 4.9x3.9mm, Pitch 1.27mm, IPC Medium Density)
footprint MAXM-S8-4_L (SOIC, 8-Leads, Body 4.9x3.9mm, Pitch 1.27mm, IPC High Density)
footprint MAXM-S8-4_M (SOIC, 8-Leads, Body 4.9x3.9mm, Pitch 1.27mm, IPC Low Density)
pins: 1 RS+ (in) "Power connection to the external sense resistor. The “+” indicates the direction of current flow.", 2 RS- (in) "Load-side connection for the external sense resistor. The “-” indicates the direction of current flow.", 3 NC "No Connect. No internal connection. Leave open or connect to GND", 4 NC "No Connect. No internal connection. Leave open or connect to GND", 5 GND (power) "Ground", 6 OUT (hiz) "Current Output. OUT is proportional to the magnitude of the sense voltage (VRS+ - VRS-). A 1k ohm resistor from OUT to ground will result in a voltage equal to 10V/V of sense voltage.", 7 ~{PG} (oc) "Power Good Open-Collector Logic Output. A low level indicates that V+ is sufficient to power the MAX4172, and adequate time has passed for power-on transients to settle out.", 8 V+ (power) "Supply Voltage Input for the MAX4172"

## MAX4172ESA+
designator U?
Precision, High-Side, Current-Sense Amplifier (Iout) 10 uA / mV Gain, -40 to 85 degC, 8-Pin SOIC (S8+4), Pb-Free; PartNumber: MAX4172ESA+; Bi-Dir. Curr. Sense: No; DatasheetVersion: Rev. 2; PackageVersion: Rev. D, 10/2012; PackageReference: S8+4; PackageDescription: 8-Pin Small-Outline IC, Narrow, Body 3.9 x 4.9 mm, Pitch 1.27 mm; Supplier 1: Digi-Key; Supplier Part Number 1: MAX4172ESA+-ND; Supplier 2: Farnell; Supplier Part Number 2: 9724117; Supplier 3: Newark; Supplier Part Number 3: 68K4698; Supplier 4: Mouser; Supplier Part Number 4: 700-MAX4172ESA; Gain: 10 uA/mV; Mounting Technology: Surface Mount; Code_JEDEC: MS-012; ComponentLink1Description: Manufacturer URL; ComponentLink1URL: http://www.maximintegrated.com/; ComponentLink2Description: Datasheet; ComponentLink2URL: http://datasheets.maximintegrated.com/en/ds/MAX4172.pdf; ComponentLink3Description: Package Specification; ComponentLink3URL: http://pdfserv.maximintegrated.com/package_dwgs/21-0041.PDF
footprint MAXM-S8+4_N (SOIC, 8-Leads, Body 4.9x3.9mm, Pitch 1.27mm, IPC Medium Density)
footprint MAXM-S8+4_L (SOIC, 8-Leads, Body 4.9x3.9mm, Pitch 1.27mm, IPC High Density)
footprint MAXM-S8+4_M (SOIC, 8-Leads, Body 4.9x3.9mm, Pitch 1.27mm, IPC Low Density)
pins: 1 RS+ (in) "Power connection to the external sense resistor. The “+” indicates the direction of current flow.", 2 RS- (in) "Load-side connection for the external sense resistor. The “-” indicates the direction of current flow.", 3 NC "No Connect. No internal connection. Leave open or connect to GND", 4 NC "No Connect. No internal connection. Leave open or connect to GND", 5 GND (power) "Ground", 6 OUT (hiz) "Current Output. OUT is proportional to the magnitude of the sense voltage (VRS+ - VRS-). A 1k ohm resistor from OUT to ground will result in a voltage equal to 10V/V of sense voltage.", 7 ~{PG} (oc) "Power Good Open-Collector Logic Output. A low level indicates that V+ is sufficient to power the MAX4172, and adequate time has passed for power-on transients to settle out.", 8 V+ (power) "Supply Voltage Input for the MAX4172"

## MAX4172ESA+T
designator U?
Precision, High-Side, Current-Sense Amplifier (Iout) 10 uA / mV Gain, -40 to 85 degC, 8-Pin SOIC (S8+4), Pb-Free, Tape and Reel; PartNumber: MAX4172ESA+T; Bi-Dir. Curr. Sense: No; DatasheetVersion: Rev. 2; PackageVersion: Rev. D, 10/2012; PackageReference: S8+4; PackageDescription: 8-Pin Small-Outline IC, Narrow, Body 3.9 x 4.9 mm, Pitch 1.27 mm; Supplier 1: Digi-Key; Supplier Part Number 1: MAX4172ESA+T-ND; Supplier 2: Mouser; Supplier Part Number 2: 700-MAX4172ESA+T; Gain: 10 uA/mV; Mounting Technology: Surface Mount; Code_JEDEC: MS-012; ComponentLink1Description: Manufacturer URL; ComponentLink1URL: http://www.maximintegrated.com/; ComponentLink2Description: Datasheet; ComponentLink2URL: http://datasheets.maximintegrated.com/en/ds/MAX4172.pdf; ComponentLink3Description: Package Specification; ComponentLink3URL: http://pdfserv.maximintegrated.com/package_dwgs/21-0041.PDF
footprint MAXM-S8+4_N (SOIC, 8-Leads, Body 4.9x3.9mm, Pitch 1.27mm, IPC Medium Density)
footprint MAXM-S8+4_L (SOIC, 8-Leads, Body 4.9x3.9mm, Pitch 1.27mm, IPC High Density)
footprint MAXM-S8+4_M (SOIC, 8-Leads, Body 4.9x3.9mm, Pitch 1.27mm, IPC Low Density)
pins: 1 RS+ (in) "Power connection to the external sense resistor. The “+” indicates the direction of current flow.", 2 RS- (in) "Load-side connection for the external sense resistor. The “-” indicates the direction of current flow.", 3 NC "No Connect. No internal connection. Leave open or connect to GND", 4 NC "No Connect. No internal connection. Leave open or connect to GND", 5 GND (power) "Ground", 6 OUT (hiz) "Current Output. OUT is proportional to the magnitude of the sense voltage (VRS+ - VRS-). A 1k ohm resistor from OUT to ground will result in a voltage equal to 10V/V of sense voltage.", 7 ~{PG} (oc) "Power Good Open-Collector Logic Output. A low level indicates that V+ is sufficient to power the MAX4172, and adequate time has passed for power-on transients to settle out.", 8 V+ (power) "Supply Voltage Input for the MAX4172"

## MAX4172ESA-T
designator U?
Precision, High-Side, Current-Sense Amplifier (Iout) 10 uA / mV Gain, -40 to 85 degC, 8-Pin SOIC (S8-4), Tape and Reel; PartNumber: MAX4172ESA-T; Bi-Dir. Curr. Sense: No; DatasheetVersion: Rev. 2; PackageVersion: Rev. D, 10/2012; PackageReference: S8-4; PackageDescription: 8-Pin Small-Outline IC, Narrow, Body 3.9 x 4.9 mm, Pitch 1.27 mm; Supplier 1: Digi-Key; Supplier Part Number 1: MAX4172ESA-T-ND; Supplier 2: Mouser; Supplier Part Number 2: 700-MAX4172ESA-T-; Gain: 10 uA/mV; Mounting Technology: Surface Mount; Code_JEDEC: MS-012; ComponentLink1Description: Manufacturer URL; ComponentLink1URL: http://www.maximintegrated.com/; ComponentLink2Description: Datasheet; ComponentLink2URL: http://datasheets.maximintegrated.com/en/ds/MAX4172.pdf; ComponentLink3Description: Package Specification; ComponentLink3URL: http://pdfserv.maximintegrated.com/package_dwgs/21-0041.PDF
footprint MAXM-S8-4_N (SOIC, 8-Leads, Body 4.9x3.9mm, Pitch 1.27mm, IPC Medium Density)
footprint MAXM-S8-4_L (SOIC, 8-Leads, Body 4.9x3.9mm, Pitch 1.27mm, IPC High Density)
footprint MAXM-S8-4_M (SOIC, 8-Leads, Body 4.9x3.9mm, Pitch 1.27mm, IPC Low Density)
pins: 1 RS+ (in) "Power connection to the external sense resistor. The “+” indicates the direction of current flow.", 2 RS- (in) "Load-side connection for the external sense resistor. The “-” indicates the direction of current flow.", 3 NC "No Connect. No internal connection. Leave open or connect to GND", 4 NC "No Connect. No internal connection. Leave open or connect to GND", 5 GND (power) "Ground", 6 OUT (hiz) "Current Output. OUT is proportional to the magnitude of the sense voltage (VRS+ - VRS-). A 1k ohm resistor from OUT to ground will result in a voltage equal to 10V/V of sense voltage.", 7 ~{PG} (oc) "Power Good Open-Collector Logic Output. A low level indicates that V+ is sufficient to power the MAX4172, and adequate time has passed for power-on transients to settle out.", 8 V+ (power) "Supply Voltage Input for the MAX4172"